# Altium footprint library PcbLib1_AL.PcbLib: 24 footprints (part 2 of 2)
Each footprint in its own frame and in the unit in brackets; x right, y up, seen from the top. Pads: shape width x height; smd on the part's side, far side on the other; paste and mask are expansions set on the pad; w line width, h text height; cw(c..) or ccw(c..) is an arc to the next point about the centre after c.
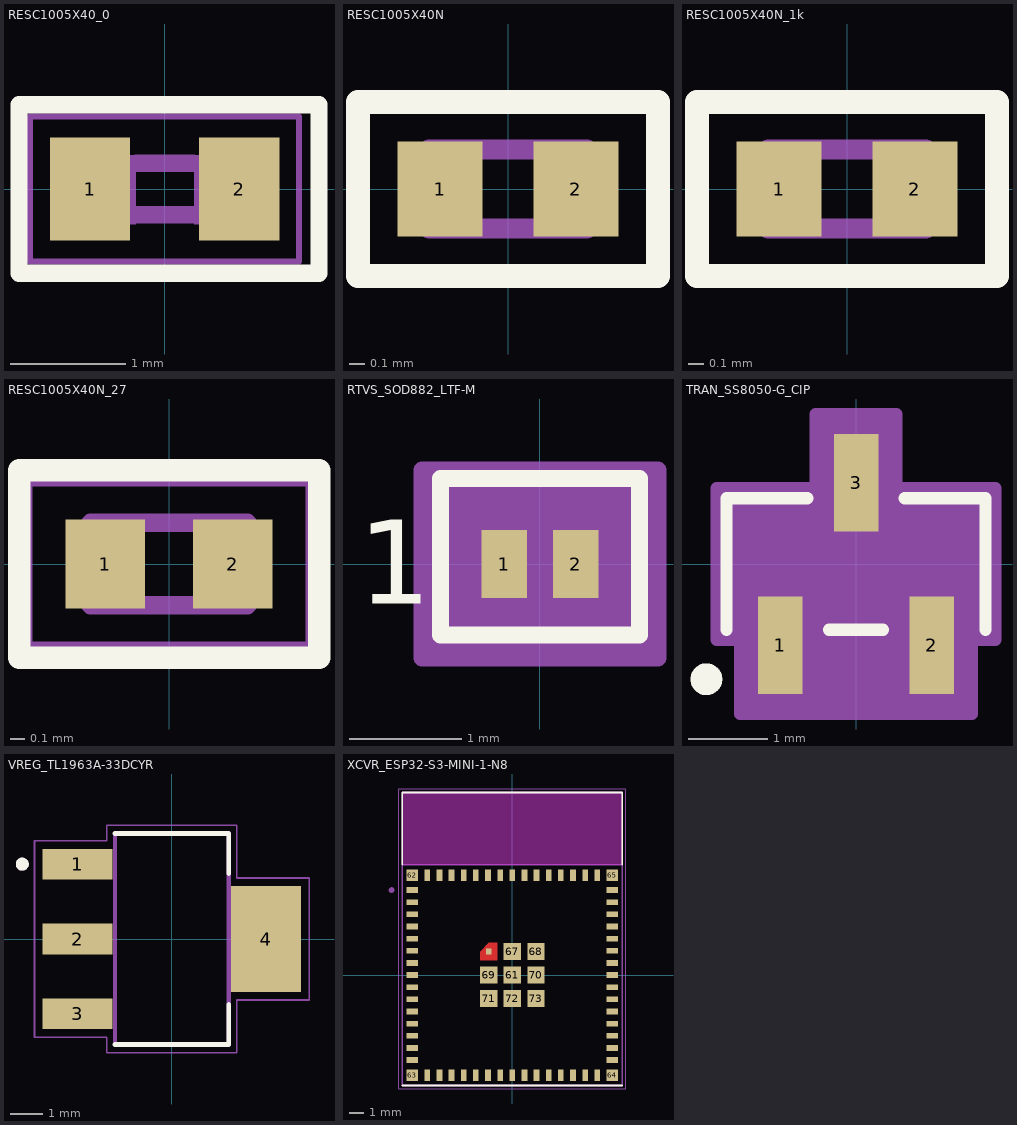
[diagram p1: the footprints below, top view; thin cyan lines are the x and y axes]

## RESC1005X40_0 [mm]
pads (2):
  rect 0.7x0.9 smd: 1(-0.65,0) 2(0.65,0)
Top Overlay:
  lines w0.152: -1.27,-0.737 -1.27,0.737 1.346,0.737 1.346,-0.737 -1.27,-0.737
Mechanical 13:
  region: -0.254,-0.305 -0.555,-0.305 -0.555,0.295 -0.254,0.295
  region: 0.559,-0.305 0.259,-0.305 0.259,0.295 0.559,0.295
  lines w0.152: -0.245,-0.224 0.245,-0.224 ; -0.245,0.224 0.245,0.224
Mechanical 15:
  lines w0.051: -1.173,-0.633 1.173,-0.633 1.173,0.633 -1.173,0.633 -1.173,-0.633
3D body "step_temp.STEP": height 0.4, standoff 0, extent -0.5,-0.25 0.5,0.25

## RESC1005X40N [mm]
height 0.4
pads (2):
  rect 0.54x0.6 smd: 1(-0.43,0) 2(0.43,0)
Top Overlay:
  lines w0.152: -0.95,-0.55 -0.95,0.55 0.95,0.55 0.95,-0.55 -0.95,-0.55
Mechanical 13:
  lines w0.127: -0.5,-0.25 -0.5,0.25 0.5,0.25 0.5,-0.25 -0.5,-0.25
Mechanical 15:
  lines w0.05: -0.95,-0.55 -0.95,0.55 0.95,0.55 0.95,-0.55 -0.95,-0.55
3D body "step_temp.STEP": height 0.4, standoff 0, extent -0.5,-0.25 0.5,0.25

## RESC1005X40N_1k [mm]
height 0.4
pads (2):
  rect 0.54x0.6 smd: 1(-0.43,0) 2(0.43,0)
Top Overlay:
  lines w0.152: -0.95,-0.55 0.95,-0.55 0.95,0.55 -0.95,0.55 -0.95,-0.55
Mechanical 13:
  lines w0.127: -0.5,-0.25 -0.5,0.25 0.5,0.25 0.5,-0.25 -0.5,-0.25
Mechanical 15:
  lines w0.05: -0.95,-0.55 -0.95,0.55 0.95,0.55 0.95,-0.55 -0.95,-0.55
3D body "Resistor_0402_Ohm.step": height 0.37, standoff 0.01, extent -0.508,-0.254 0.508,0.254

## RESC1005X40N_27 [mm]
pads (2):
  rect 0.54x0.6 smd: 1(-0.432,0) 2(0.432,0)
Top Overlay:
  lines w0.152: -1.016,-0.635 -1.016,0.635 1.016,0.635 1.016,-0.635 -1.016,-0.635
Mechanical 13:
  lines w0.127: -0.53,-0.28 0.53,-0.28 0.53,0.28 -0.53,0.28 -0.53,-0.28
Mechanical 15:
  lines w0.05: -0.95,-0.55 0.95,-0.55 0.95,0.55 -0.95,0.55 -0.95,-0.55
3D body "RESC1005X04L - 0ohm.step": height 0.35, standoff 0, extent -0.525,-0.275 0.525,0.275

## RTVS_SOD882_LTF-M [mil]
pads (2):
  rect 16x24 smd paste+0 mask+0: 1(-12.5,0) 2(12.5,0)
Top Overlay:
  lines w6: -35,-25 35,-25 35,30 -35,30 -35,-25
  text "1" at -64,-14 h29.53
Mechanical 13:
  circle w0: c-4.5,0 r3
  lines w1: -21.5,-13 21.5,-13 21.5,13 -21.5,13 -21.5,-13
Mechanical 15:
  region: -41.5,-32 -41.5,32 -41.5,33 41.5,33 41.5,32 41.5,-32 41.5,-33 -41.5,-33
  lines w6: -41.5,-33 -41.5,-32 -41.5,32 -41.5,33 41.5,33 41.5,32 41.5,-32 41.5,-33 -41.5,-33
3D body "RTVS_SOD882_LTF.step": height 22.09, standoff 0, extent -21.5,-12.99 21.5,12.99

## TRAN_SS8050-G_CIP [mil]
pads (3):
  rect 22x48 smd paste+0 mask+0: 1(-37.4,-40.2) 2(37.4,-40.2) 3(0,40.2)
Top Overlay:
  circle w7.87: c-74,-57 r3.94
  lines w6: -64,-32.5 -64,32.5 -24.1,32.5 ; -13.3,-32.5 13.3,-32.5 ; 24.1,32.5 64,32.5 64,-32.5
Mechanical 13:
  lines w1: -59,-27.5 -59,27.5 59,27.5 59,-27.5 -59,-27.5 ; -47.4,-50.2 -27.4,-50.2 -27.4,-27.5 -47.4,-27.5 -47.4,-50.2 ; -10,27.5 -10,50.2 10,50.2 10,27.5 -10,27.5 ; 27.4,-50.2 47.4,-50.2 47.4,-27.5 27.4,-27.5 27.4,-50.2
Mechanical 15:
  region: -69,-37.5 -69,37.5 -20,37.5 -20,74.2 20,74.2 20,37.5 69,37.5 69,-37.5 57.4,-37.5 57.4,-74.2 -57.4,-74.2 -57.4,-37.5
  lines w6: -69,-37.5 -57.4,-37.5 -57.4,-74.2 57.4,-74.2 57.4,-37.5 69,-37.5 69,37.5 20,37.5 20,74.2 -20,74.2 -20,37.5 -69,37.5 -69,-37.5
3D body "TRAN_SS8050-G_CIP.step": height 41.1, standoff 0, extent -59.02,-50.2 59.02,50.2

## VREG_TL1963A-33DCYR [mm]
height 1.8
pads (4):
  rect 2.15x0.95 smd: 1(-2.9,2.3) 2(-2.9,0) 3(-2.9,-2.3)
  rect 2.15x3.25 smd: 4(2.9,0)
Top Overlay:
  circle w0.2: c-4.6,2.3 r0.1
  lines w0.152: -1.75,-3.25 1.75,-3.25 1.75,-2.01 ; -1.75,3.25 1.75,3.25 1.75,2.01
Mechanical 13:
  circle w0.2: c-4.6,2.3 r0.1
  lines w0.127: -1.75,-3.25 1.75,-3.25 1.75,3.25 -1.75,3.25 -1.75,-3.25
Mechanical 15:
  lines w0.05: -4.225,-3.025 -2,-3.025 -2,-3.5 2,-3.5 2,-1.875 4.225,-1.875 4.225,1.875 2,1.875 2,3.5 -2,3.5 -2,3.025 -4.225,3.025 -4.225,-3.025
3D body "step_temp.STEP": height 1.8, standoff 0, extent -3.499,-3.25 3.499,3.25

## XCVR_ESP32-S3-MINI-1-N8 [mm]
height 2.55
pads (73):
  rect 0.8x0.4 smd: 1(-7,5.95) 2(-7,5.1) 3(-7,4.25) 4(-7,3.4) 5(-7,2.55) 6(-7,1.7) 7(-7,0.85) 8(-7,0) 9(-7,-0.85) 10(-7,-1.7) 11(-7,-2.55) 12(-7,-3.4) 13(-7,-4.25) 14(-7,-5.1) 15(-7,-5.95) 31(7,-5.95) 32(7,-5.1) 33(7,-4.25) 34(7,-3.4) 35(7,-2.55) 36(7,-1.7) 37(7,-0.85) 38(7,0) 39(7,0.85) 40(7,1.7) 41(7,2.55) 42(7,3.4) 43(7,4.25) 44(7,5.1) 45(7,5.95)
  rect 0.4x0.8 smd: 16(-5.95,-7) 17(-5.1,-7) 18(-4.25,-7) 19(-3.4,-7) 20(-2.55,-7) 21(-1.7,-7) 22(-0.85,-7) 23(0,-7) 24(0.85,-7) 25(1.7,-7) 26(2.55,-7) 27(3.4,-7) 28(4.25,-7) 29(5.1,-7) 30(5.95,-7) 46(5.95,7) 47(5.1,7) 48(4.25,7) 49(3.4,7) 50(2.55,7) 51(1.7,7) 52(0.85,7) 53(0,7) 54(-0.85,7) 55(-1.7,7) 56(-2.55,7) 57(-3.4,7) 58(-4.25,7) 59(-5.1,7) 60(-5.95,7)
  rect 1.2x1.2 smd: 61(0,0) 67(0,1.65) 68(1.65,1.65) 69(-1.65,0) 70(1.65,0) 71(-1.65,-1.65) 72(0,-1.65) 73(1.65,-1.65)
  rect 0.8x0.8 smd: 62(-7,7) 63(-7,-7) 64(7,-7) 65(7,7)
  rect 0.4x0.4 smd paste-1 mask+0: 66(-1.65,1.65)
Top Layer:
  region: -1.05,1.05 -2.25,1.05 -2.25,1.65 -1.65,2.25 -1.05,2.25
Top Overlay:
  lines w0.127: -7.7,-7.725 7.7,-7.725 ; -7.7,7.725 -7.7,12.775 7.7,12.775 7.7,7.725
Top Paste:
  region: -1.05,1.05 -2.25,1.05 -2.25,1.65 -1.65,2.25 -1.05,2.25
Top Solder:
  region: -0.95,0.95 -2.35,0.95 -2.35,1.7 -1.7,2.35 -0.95,2.35
Keep-Out Layer:
  region: 7.7,7.725 -7.7,7.725 -7.7,12.775 7.7,12.775
  region: 7.7,7.725 -7.7,7.725 -7.7,12.775 7.7,12.775
Mechanical 13:
  circle w0.2: c-8.45,5.95 r0.1
  lines w0.127: -7.7,7.725 -7.7,-7.725 7.7,-7.725 7.7,7.725 ; -7.7,7.725 -7.7,12.775 7.7,12.775 7.7,7.725 ; -7.7,7.725 7.7,7.725
Mechanical 15:
  lines w0.05: -7.95,-7.975 -7.95,13.025 7.95,13.025 7.95,-7.975 -7.95,-7.975
3D body "ESP32-S3-MINI-1-N8.STEP": height 2.55, standoff 0, extent -7.7,-7.71 7.7,12.79